# Altium schematic symbol library BAT17-06W.SchLib: 1 symbol
Pins are listed as number, name and electrical type; pins without a type are passive.

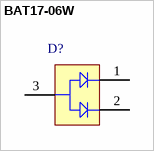
[diagram p0: symbol BAT17-06W]

## BAT17-06W
designator D?
Dual Silicon Schottky Diode, 130 mA IF Max, SOT323, Green; Manufacturer: Infineon; PartNumber: BAT17-06W; CT (typ): 0.55 pF; Green: yes; Group: RF Mixer; IF (max): 130 mA; VF (typ): 0.34 V; VR (max): 4 V; DatasheetVersion: Jun-2011; PackageReference: SOT323; PackageDescription: 3-Pin Small Outline Transistor Package, 1.25 x 2 mm Body, 0.65 mm Pitch; Supplier 1: Mouser; Supplier Part Number 1: N/A; Configuration: Dual; Halogen-free: yes; Mounting Technology: Surface Mount; ComponentLink1Description: Manufacturer URL; ComponentLink1URL: http://www.infineon.com/; ComponentLink2Description: Datasheet; ComponentLink2URL: http://www.infineon.com/dgdl/bat17series.pdf?folderId=db3a304314dca3890114ff6812070b44&fileId=db3a304314dca389011517d785d60d4e&location=en.Products.RF.RF_Mixer___Detector_Schottky_Diodes.DATASHEET.bat17series.pdf; ComponentLink3Description: Package Specification; ComponentLink3URL: http://www.infineon.com/dgdl/SOT323-Package_Overview.pdf?folderId=db3a30431936bc4b0119533e1dcb3c92&fileId=db3a30431936bc4b011953495f283cb1
footprint INF-SOT323_N (SOT23, 3-Leads, Body 2x1.25 mm, Pitch 0.65 mm, IPC Medium Density)
footprint INF-SOT323_L (SOT23, 3-Leads, Body 2x1.25 mm, Pitch 0.65 mm, IPC High Density)
footprint INF-SOT323_M (SOT23, 3-Leads, Body 2x1.25 mm, Pitch 0.65 mm, IPC Low Density)
pins: 1 K1, 2 K2, 3 A